# Altium integrated library Xilinx XC2000.IntLib: 47 symbols (part 2 of 2)
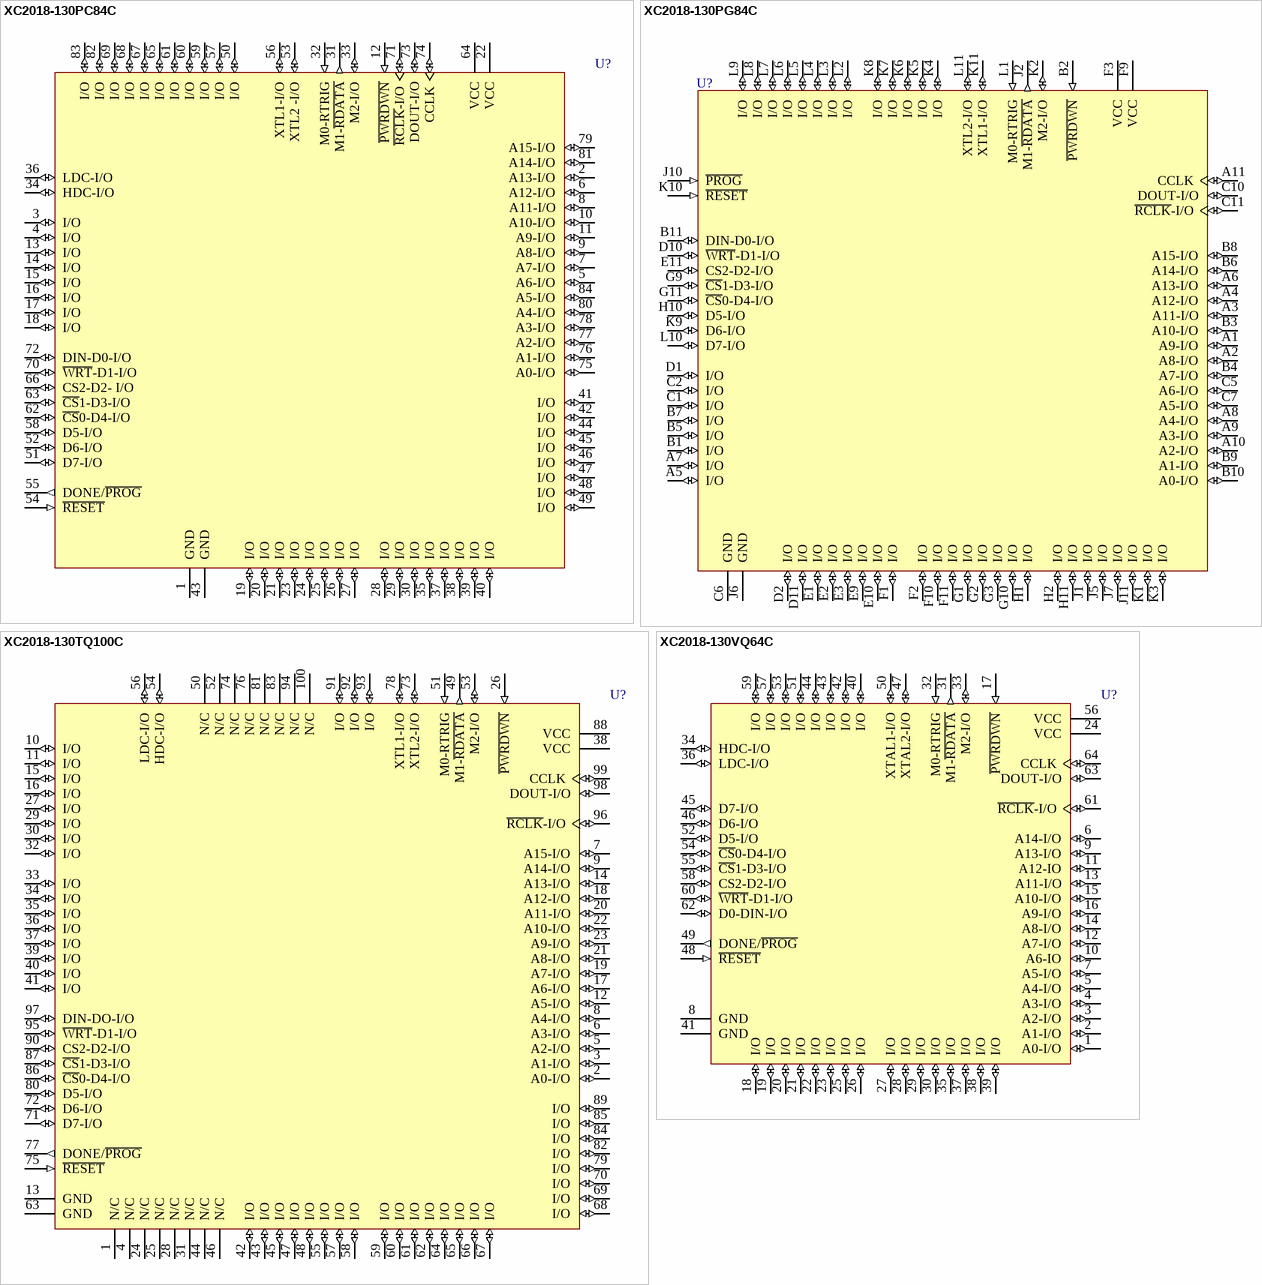
[diagram p10: symbols XC2018-130PC84C to XC2018-130VQ64C]

## XC2018-130VQ64C
designator U?
Logic Cell Array, with 54 I/O Pins, 64-Pin VQFP, Commercial Grade; PackageDocument: ver1.1, Oct-2002; Published: 8-Jun-2000; LatestRevisionDate: 17-Jul-2002; LatestRevisionNote: Re-released for DXP Platform.; DatasheetDocument: 1994; PackageReference: VQ64; Publisher: Altium Limited; Code_JEDEC: MS-026-ACD
footprint VQ64 (64-Pin Very Thin Quad Flat Pack (VQ64))
pins: 1 A0-I/O (io), 2 A1-I/O (io), 3 A2-I/O (io), 4 A3-I/O (io), 5 A4-I/O (io), 6 A14-I/O (io), 7 A5-I/O (io), 8 GND (power), 9 A13-I/O (io), 10 A6-IO (io), 11 A12-IO (io), 12 A7-I/O (io), 13 A11-I/O (io), 14 A8-I/O (io), 15 A10-I/O (io), 16 A9-I/O (io), 17 ~{PWRDWN} (in), 18 I/O (io), 19 I/O (io), 20 I/O (io), 21 I/O (io), 22 I/O (io), 23 I/O (io), 24 VCC (power), 25 I/O (io), 26 I/O (io), 27 I/O (io), 28 I/O (io), 29 I/O (io), 30 I/O (io), 31 M1-~{RDATA} (out), 32 M0-RTRIG (in), 33 M2-I/O (io), 34 HDC-I/O (io), 35 I/O (io), 36 LDC-I/O (io), 37 I/O (io), 38 I/O (io), 39 I/O (io), 40 I/O (io), 41 GND (power), 42 I/O (io), 43 I/O (io), 44 I/O (io), 45 D7-I/O (io), 46 D6-I/O (io), 47 XTAL2-I/O (io), 48 ~{RESET} (in), 49 DONE/~{PROG} (out), 50 XTAL1-I/O (io), 51 I/O (io), 52 D5-I/O (io), 53 I/O (io), 54 ~{CS}0-D4-I/O (io), 55 ~{CS}1-D3-I/O (io), 56 VCC (power), 57 I/O (io), 58 CS2-D2-I/O (io), 59 I/O (io), 60 ~{WRT}-D1-I/O (io), 61 ~{RCLK}-I/O (io), 62 D0-DIN-I/O (io), 63 DOUT-I/O (io), 64 CCLK (io)

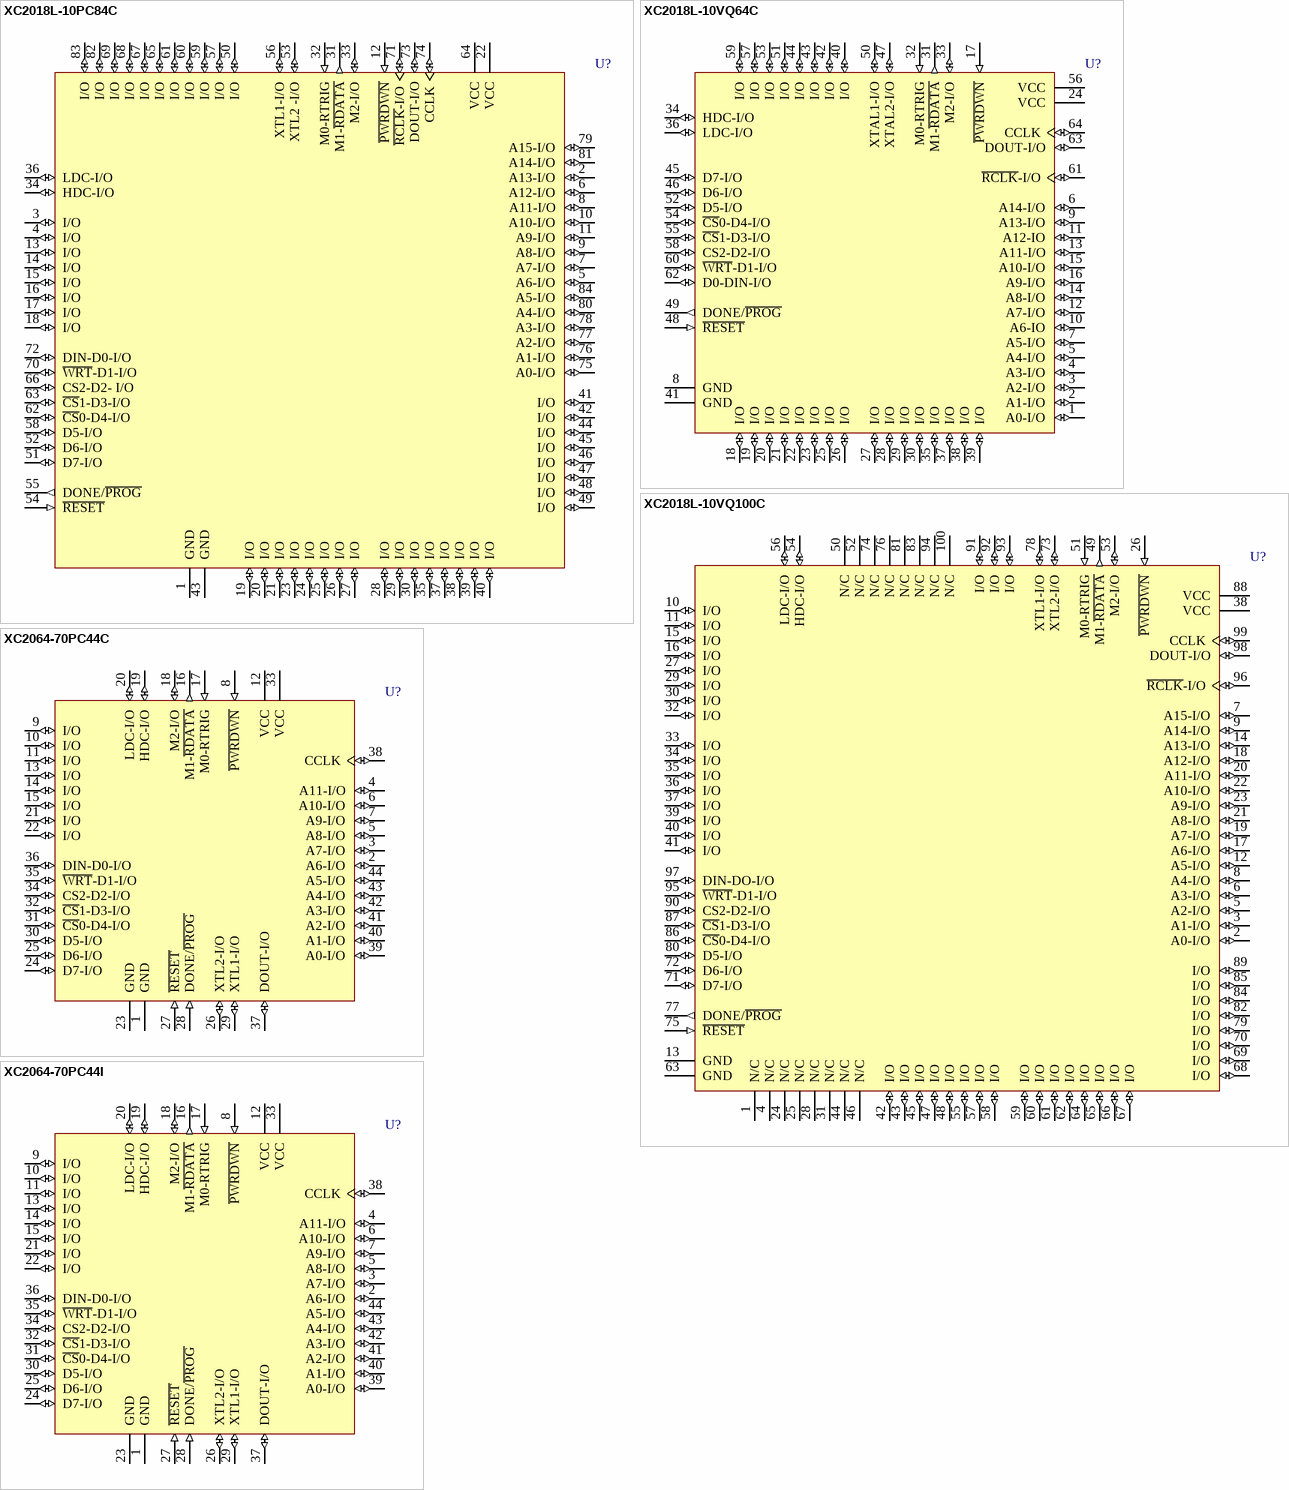
[diagram p7: symbols XC2018L-10PC84C to XC2064-70PC44I]

## XC2018L-10PC84C
designator U?
Low-Voltage Logic Cell Array Family, with 74 I/O Pins, 84-Pin PLCC, Commercial Grade; PackageDocument: ver1.0, Jun-2000; Published: 8-Jun-2000; LatestRevisionDate: 17-Sep-2003; LatestRevisionNote: PCB Footprint dimensions updated; DatasheetDocument: 1994; PackageReference: PC84; Publisher: Altium Limited; Code_JEDEC: MS-047; Code_IPC: PLCC-84
footprint PC84 (84-Pin Plastic Leaded Chip Carrier (PC84))
pins: 1 GND (power), 2 A13-I/O (io), 3 I/O (io), 4 I/O (io), 5 A6-I/O (io), 6 A12-I/O (io), 7 A7-I/O (io), 8 A11-I/O (io), 9 A8-I/O (io), 10 A10-I/O (io), 11 A9-I/O (io), 12 ~{PWRDWN} (in), 13 I/O (io), 14 I/O (io), 15 I/O (io), 16 I/O (io), 17 I/O (io), 18 I/O (io), 19 I/O (io), 20 I/O (io), 21 I/O (io), 22 VCC (power), 23 I/O (io), 24 I/O (io), 25 I/O (io), 26 I/O (io), 27 I/O (io), 28 I/O (io), 29 I/O (io), 30 I/O (io), 31 M1-~{RDATA} (out), 32 M0-RTRIG (in), 33 M2-I/O (io), 34 HDC-I/O (io), 35 I/O (io), 36 LDC-I/O (io), 37 I/O (io), 38 I/O (io), 39 I/O (io), 40 I/O (io), 41 I/O (io), 42 I/O (io), 43 GND (power), 44 I/O (io), 45 I/O (io), 46 I/O (io), 47 I/O (io), 48 I/O (io), 49 I/O (io), 50 I/O (io), 51 D7-I/O (io), 52 D6-I/O (io), 53 XTL2 -I/O (io), 54 ~{RESET} (in), 55 DONE/~{PROG} (out), 56 XTL1-I/O (io), 57 I/O (io), 58 D5-I/O (io), 59 I/O (io), 60 I/O (io), 61 I/O (io), 62 ~{CS}0-D4-I/O (io), 63 ~{CS}1-D3-I/O (io), 64 VCC (power), 65 I/O (io), 66 CS2-D2- I/O (io), 67 I/O (io), 68 I/O (io), 69 I/O (io), 70 ~{WRT}-D1-I/O (io), 71 ~{RCLK}-I/O (io), 72 DIN-D0-I/O (io), 73 DOUT-I/O (io), 74 CCLK (io), 75 A0-I/O (io), 76 A1-I/O (io), 77 A2-I/O (io), 78 A3-I/O (io), 79 A15-I/O (io), 80 A4-I/O (io), 81 A14-I/O (io), 82 I/O (io), 83 I/O (io), 84 A5-I/O (io)

## XC2018L-10VQ64C
designator U?
Low-Voltage Logic Cell Array Family, with 54 I/O Pins, 64-Pin VQFP, Commercial Grade; PackageDocument: ver1.1, Oct-2002; Published: 8-Jun-2000; LatestRevisionDate: 17-Jul-2002; LatestRevisionNote: Re-released for DXP Platform.; DatasheetDocument: 1994; PackageReference: VQ64; Publisher: Altium Limited; Code_JEDEC: MS-026-ACD
footprint VQ64 (64-Pin Very Thin Quad Flat Pack (VQ64))
pins: 1 A0-I/O (io), 2 A1-I/O (io), 3 A2-I/O (io), 4 A3-I/O (io), 5 A4-I/O (io), 6 A14-I/O (io), 7 A5-I/O (io), 8 GND (power), 9 A13-I/O (io), 10 A6-IO (io), 11 A12-IO (io), 12 A7-I/O (io), 13 A11-I/O (io), 14 A8-I/O (io), 15 A10-I/O (io), 16 A9-I/O (io), 17 ~{PWRDWN} (in), 18 I/O (io), 19 I/O (io), 20 I/O (io), 21 I/O (io), 22 I/O (io), 23 I/O (io), 24 VCC (power), 25 I/O (io), 26 I/O (io), 27 I/O (io), 28 I/O (io), 29 I/O (io), 30 I/O (io), 31 M1-~{RDATA} (out), 32 M0-RTRIG (in), 33 M2-I/O (io), 34 HDC-I/O (io), 35 I/O (io), 36 LDC-I/O (io), 37 I/O (io), 38 I/O (io), 39 I/O (io), 40 I/O (io), 41 GND (power), 42 I/O (io), 43 I/O (io), 44 I/O (io), 45 D7-I/O (io), 46 D6-I/O (io), 47 XTAL2-I/O (io), 48 ~{RESET} (in), 49 DONE/~{PROG} (out), 50 XTAL1-I/O (io), 51 I/O (io), 52 D5-I/O (io), 53 I/O (io), 54 ~{CS}0-D4-I/O (io), 55 ~{CS}1-D3-I/O (io), 56 VCC (power), 57 I/O (io), 58 CS2-D2-I/O (io), 59 I/O (io), 60 ~{WRT}-D1-I/O (io), 61 ~{RCLK}-I/O (io), 62 D0-DIN-I/O (io), 63 DOUT-I/O (io), 64 CCLK (io)

## XC2018L-10VQ100C
designator U?
Low-Voltage Logic Cell Array Family, with 74 I/O Pins, 100-Pin VQFP, Commercial Grade; PackageDocument: ver1.1, Oct-2002; Published: 8-Jun-2000; LatestRevisionDate: 17-Sep-2003; LatestRevisionNote: PCB Footprint dimensions updated; DatasheetDocument: 1994; PackageReference: VQ100; Publisher: Altium Limited; Code_JEDEC: MS-026-AED; Code_IPC: SQFP14X14-100
footprint VQ100 (100-Pin Very Thin Quad Flat Pack (VQ100))
pins: 1 N/C, 2 A0-I/O (io), 3 A1-I/O (io), 4 N/C, 5 A2-I/O (io), 6 A3-I/O (io), 7 A15-I/O (io), 8 A4-I/O (io), 9 A14-I/O (io), 10 I/O (io), 11 I/O (io), 12 A5-I/O (io), 13 GND (power), 14 A13-I/O (io), 15 I/O (io), 16 I/O (io), 17 A6-I/O (io), 18 A12-I/O (io), 19 A7-I/O (io), 20 A11-I/O (io), 21 A8-I/O (io), 22 A10-I/O (io), 23 A9-I/O (io), 24 N/C, 25 N/C, 26 ~{PWRDWN} (in), 27 I/O (io), 28 N/C, 29 I/O (io), 30 I/O (io), 31 N/C, 32 I/O (io), 33 I/O (io), 34 I/O (io), 35 I/O (io), 36 I/O (io), 37 I/O (io), 38 VCC (power), 39 I/O (io), 40 I/O (io), 41 I/O (io), 42 I/O (io), 43 I/O (io), 44 N/C, 45 I/O (io), 46 N/C, 47 I/O (io), 48 I/O (io), 49 M1-~{RDATA} (out), 50 N/C, 51 M0-RTRIG (in), 52 N/C, 53 M2-I/O (io), 54 HDC-I/O (io), 55 I/O (io), 56 LDC-I/O (io), 57 I/O (io), 58 I/O (io), 59 I/O (io), 60 I/O (io), 61 I/O (io), 62 I/O (io), 63 GND (power), 64 I/O (io), 65 I/O (io), 66 I/O (io), 67 I/O (io), 68 I/O (io), 69 I/O (io), 70 I/O (io), 71 D7-I/O (io), 72 D6-I/O (io), 73 XTL2-I/O (io), 74 N/C, 75 ~{RESET} (in), 76 N/C, 77 DONE/~{PROG} (out), 78 XTL1-I/O (io), 79 I/O (io), 80 D5-I/O (io), 81 N/C, 82 I/O (io), 83 N/C, 84 I/O (io), 85 I/O (io), 86 ~{CS}0-D4-I/O (io), 87 ~{CS}1-D3-I/O (io), 88 VCC (power), 89 I/O (io), 90 CS2-D2-I/O (io), 91 I/O (io), 92 I/O (io), 93 I/O (io), 94 N/C, 95 ~{WRT}-D1-I/O (io), 96 ~{RCLK}-I/O (io), 97 DIN-DO-I/O (io), 98 DOUT-I/O (io), 99 CCLK (io), 100 N/C

## XC2064-70PC44C
designator U?
Logic Cell Array with 600 - 1000 Gates, with 34 I/O Pins, 44-Pin PLCC, Commercial Grade; PackageDocument: ver1.0, Jun-2000; Published: 8-Jun-2000; LatestRevisionDate: 17-Sep-2003; LatestRevisionNote: PCB Footprint dimensions updated; DatasheetDocument: 1994; PackageReference: PC44; Publisher: Altium Limited; Code_JEDEC: MS-047; Code_IPC: PLCC-44
footprint PC44 (44-Pin Plastic Leaded Chip Carrier (PC44))
pins: 1 GND (power), 2 A6-I/O (io), 3 A7-I/O (io), 4 A11-I/O (io), 5 A8-I/O (io), 6 A10-I/O (io), 7 A9-I/O (io), 8 ~{PWRDWN} (in), 9 I/O (io), 10 I/O (io), 11 I/O (io), 12 VCC (power), 13 I/O (io), 14 I/O (io), 15 I/O (io), 16 M1-~{RDATA} (out), 17 M0-RTRIG (in), 18 M2-I/O (io), 19 HDC-I/O (io), 20 LDC-I/O (io), 21 I/O (io), 22 I/O (io), 23 GND (power), 24 D7-I/O (io), 25 D6-I/O (io), 26 XTL2-I/O (io), 27 ~{RESET} (in), 28 DONE/~{PROG} (in), 29 XTL1-I/O (io), 30 D5-I/O (io), 31 ~{CS}0-D4-I/O (io), 32 ~{CS}1-D3-I/O (io), 33 VCC (power), 34 CS2-D2-I/O (io), 35 ~{WRT}-D1-I/O (io), 36 DIN-D0-I/O (io), 37 DOUT-I/O (io), 38 CCLK (io), 39 A0-I/O (io), 40 A1-I/O (io), 41 A2-I/O (io), 42 A3-I/O (io), 43 A4-I/O (io), 44 A5-I/O (io)

## XC2064-70PC44I
designator U?
Logic Cell Array with 600 - 1000 Gates, with 34 I/O Pins, 44-Pin PLCC, Industrial Grade; PackageDocument: ver1.0, Jun-2000; Published: 8-Jun-2000; LatestRevisionDate: 17-Sep-2003; LatestRevisionNote: PCB Footprint dimensions updated; DatasheetDocument: 1994; PackageReference: PC44; Publisher: Altium Limited; Code_JEDEC: MS-047; Code_IPC: PLCC-44
footprint PC44 (44-Pin Plastic Leaded Chip Carrier (PC44))
pins: 1 GND (power), 2 A6-I/O (io), 3 A7-I/O (io), 4 A11-I/O (io), 5 A8-I/O (io), 6 A10-I/O (io), 7 A9-I/O (io), 8 ~{PWRDWN} (in), 9 I/O (io), 10 I/O (io), 11 I/O (io), 12 VCC (power), 13 I/O (io), 14 I/O (io), 15 I/O (io), 16 M1-~{RDATA} (out), 17 M0-RTRIG (in), 18 M2-I/O (io), 19 HDC-I/O (io), 20 LDC-I/O (io), 21 I/O (io), 22 I/O (io), 23 GND (power), 24 D7-I/O (io), 25 D6-I/O (io), 26 XTL2-I/O (io), 27 ~{RESET} (in), 28 DONE/~{PROG} (in), 29 XTL1-I/O (io), 30 D5-I/O (io), 31 ~{CS}0-D4-I/O (io), 32 ~{CS}1-D3-I/O (io), 33 VCC (power), 34 CS2-D2-I/O (io), 35 ~{WRT}-D1-I/O (io), 36 DIN-D0-I/O (io), 37 DOUT-I/O (io), 38 CCLK (io), 39 A0-I/O (io), 40 A1-I/O (io), 41 A2-I/O (io), 42 A3-I/O (io), 43 A4-I/O (io), 44 A5-I/O (io)

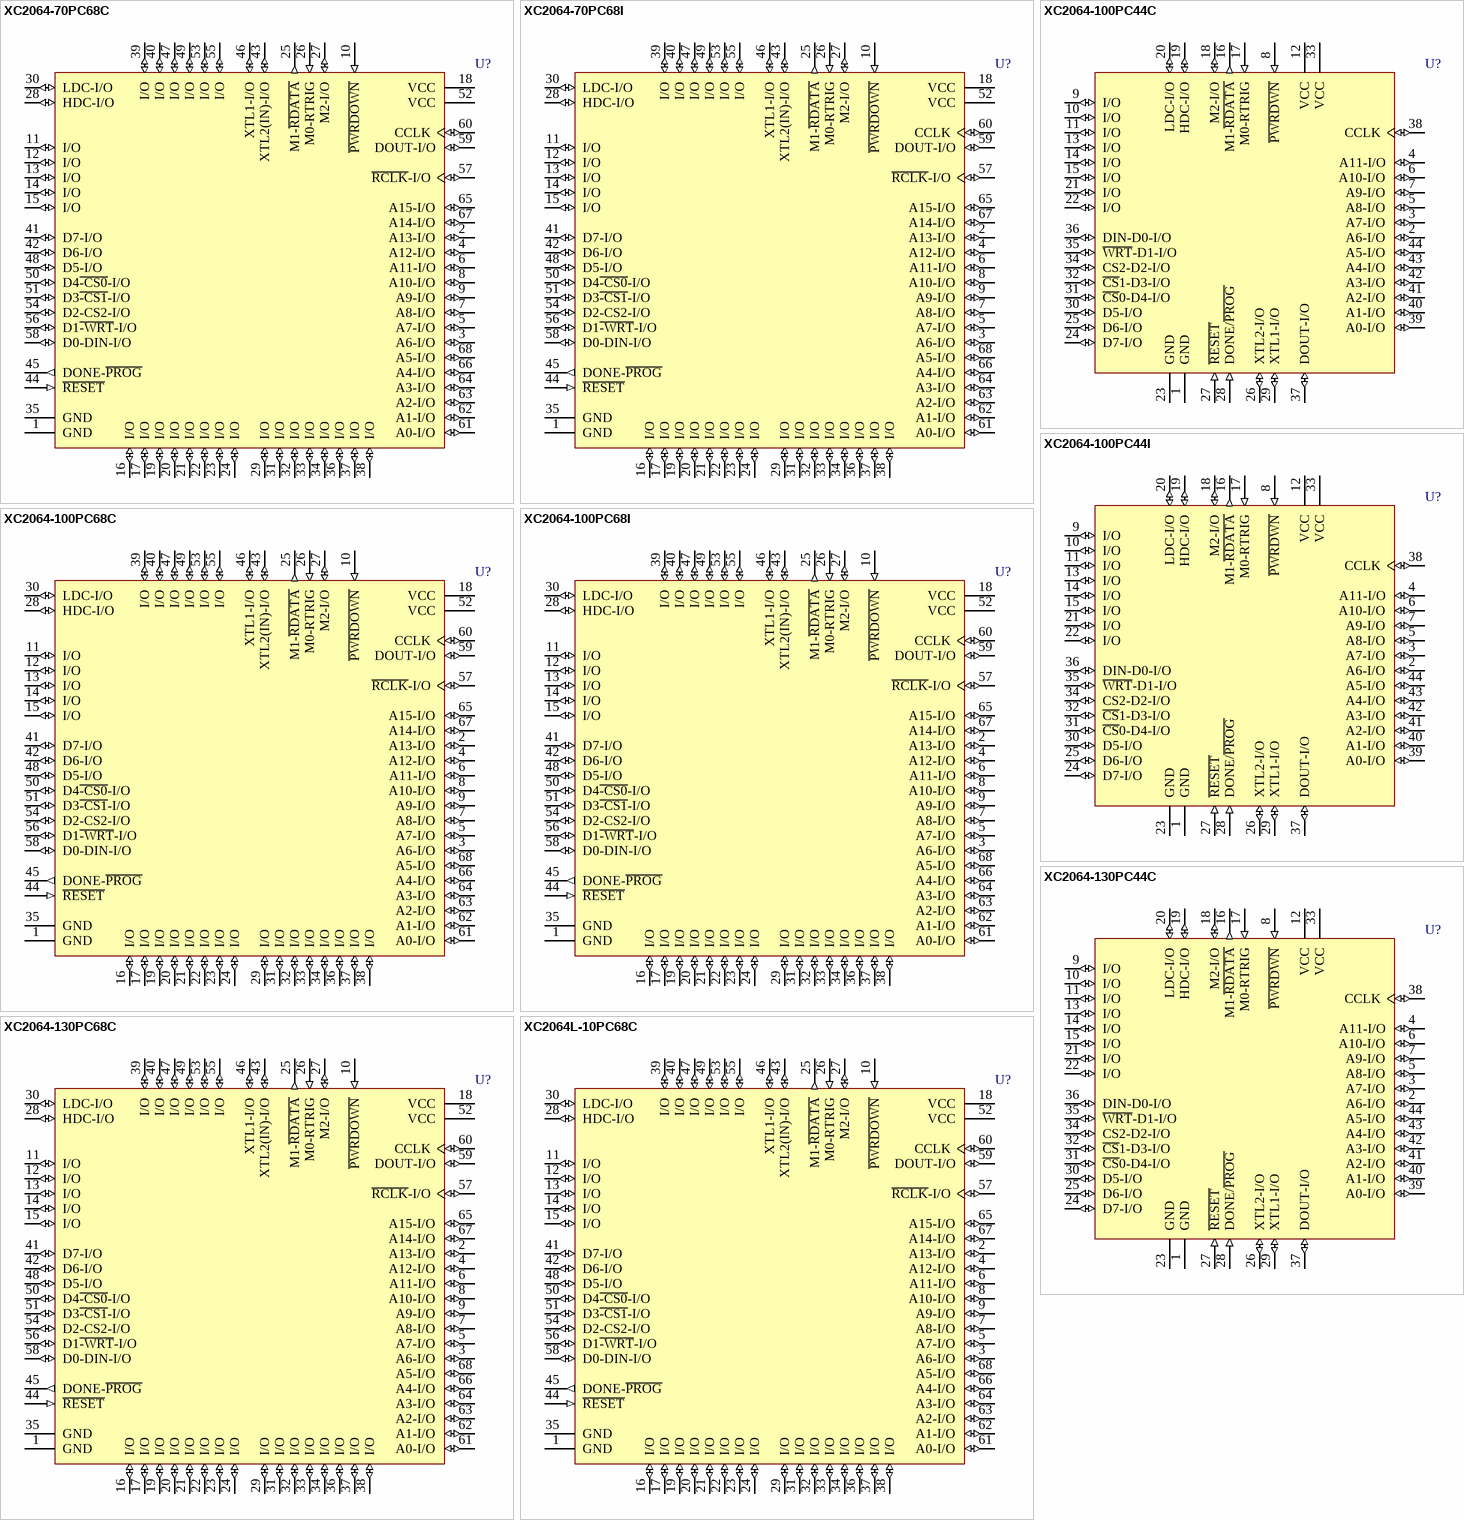
[diagram p8: symbols XC2064-70PC68C to XC2064L-10PC68C]

## XC2064-70PC68C
designator U?
Logic Cell Array with 600 - 1000 Gates, with 58 I/O Pins, 68-Pin PLCC, Commercial Grade; PackageDocument: ver1.0, Jun-2000; Published: 8-Jun-2000; LatestRevisionDate: 17-Sep-2003; LatestRevisionNote: PCB Footprint dimensions updated; DatasheetDocument: 1994; PackageReference: PC68; Publisher: Altium Limited; Code_JEDEC: MO-047; Code_IPC: PLCC-68
footprint PC68 (68-Pin Plastic Leaded Chip Carrier (PC68))
pins: 1 GND (power), 2 A13-I/O (io), 3 A6-I/O (io), 4 A12-I/O (io), 5 A7-I/O (io), 6 A11-I/O (io), 7 A8-I/O (io), 8 A10-I/O (io), 9 A9-I/O (io), 10 ~{PWRDOWN} (in), 11 I/O (io), 12 I/O (io), 13 I/O (io), 14 I/O (io), 15 I/O (io), 16 I/O (io), 17 I/O (io), 18 VCC (power), 19 I/O (io), 20 I/O (io), 21 I/O (io), 22 I/O (io), 23 I/O (io), 24 I/O (io), 25 M1-~{RDATA} (out), 26 M0-RTRIG (in), 27 M2-I/O (io), 28 HDC-I/O (io), 29 I/O (io), 30 LDC-I/O (io), 31 I/O (io), 32 I/O (io), 33 I/O (io), 34 I/O (io), 35 GND (power), 36 I/O (io), 37 I/O (io), 38 I/O (io), 39 I/O (io), 40 I/O (io), 41 D7-I/O (io), 42 D6-I/O (io), 43 XTL2(IN)-I/O (io), 44 ~{RESET} (in), 45 DONE-~{PROG} (out), 46 XTL1-I/O (io), 47 I/O (io), 48 D5-I/O (io), 49 I/O (io), 50 D4~{-CS0}-I/O (io), 51 D3~{-CS1}-I/O (io), 52 VCC (power), 53 I/O (io), 54 D2-CS2-I/O (io), 55 I/O (io), 56 D1~{-WRT}-I/O (io), 57 ~{RCLK}-I/O (io), 58 D0-DIN-I/O (io), 59 DOUT-I/O (io), 60 CCLK (io), 61 A0-I/O (io), 62 A1-I/O (io), 63 A2-I/O (io), 64 A3-I/O (io), 65 A15-I/O (io), 66 A4-I/O (io), 67 A14-I/O (io), 68 A5-I/O (io)

## XC2064-70PC68I
designator U?
Logic Cell Array with 600 - 1000 Gates, with 58 I/O Pins, 68-Pin PLCC, Industrial Grade; PackageDocument: ver1.0, Jun-2000; Published: 8-Jun-2000; LatestRevisionDate: 17-Sep-2003; LatestRevisionNote: PCB Footprint dimensions updated; DatasheetDocument: 1994; PackageReference: PC68; Publisher: Altium Limited; Code_JEDEC: MO-047; Code_IPC: PLCC-68
footprint PC68 (68-Pin Plastic Leaded Chip Carrier (PC68))
pins: 1 GND (power), 2 A13-I/O (io), 3 A6-I/O (io), 4 A12-I/O (io), 5 A7-I/O (io), 6 A11-I/O (io), 7 A8-I/O (io), 8 A10-I/O (io), 9 A9-I/O (io), 10 ~{PWRDOWN} (in), 11 I/O (io), 12 I/O (io), 13 I/O (io), 14 I/O (io), 15 I/O (io), 16 I/O (io), 17 I/O (io), 18 VCC (power), 19 I/O (io), 20 I/O (io), 21 I/O (io), 22 I/O (io), 23 I/O (io), 24 I/O (io), 25 M1-~{RDATA} (out), 26 M0-RTRIG (in), 27 M2-I/O (io), 28 HDC-I/O (io), 29 I/O (io), 30 LDC-I/O (io), 31 I/O (io), 32 I/O (io), 33 I/O (io), 34 I/O (io), 35 GND (power), 36 I/O (io), 37 I/O (io), 38 I/O (io), 39 I/O (io), 40 I/O (io), 41 D7-I/O (io), 42 D6-I/O (io), 43 XTL2(IN)-I/O (io), 44 ~{RESET} (in), 45 DONE-~{PROG} (out), 46 XTL1-I/O (io), 47 I/O (io), 48 D5-I/O (io), 49 I/O (io), 50 D4~{-CS0}-I/O (io), 51 D3~{-CS1}-I/O (io), 52 VCC (power), 53 I/O (io), 54 D2-CS2-I/O (io), 55 I/O (io), 56 D1~{-WRT}-I/O (io), 57 ~{RCLK}-I/O (io), 58 D0-DIN-I/O (io), 59 DOUT-I/O (io), 60 CCLK (io), 61 A0-I/O (io), 62 A1-I/O (io), 63 A2-I/O (io), 64 A3-I/O (io), 65 A15-I/O (io), 66 A4-I/O (io), 67 A14-I/O (io), 68 A5-I/O (io)

## XC2064-100PC44C
designator U?
Logic Cell Array with 600 - 1000 Gates, with 34 I/O Pins, 44-Pin PLCC, Commercial Grade; PackageDocument: ver1.0, Jun-2000; Published: 8-Jun-2000; LatestRevisionDate: 17-Sep-2003; LatestRevisionNote: PCB Footprint dimensions updated; DatasheetDocument: 1994; PackageReference: PC44; Publisher: Altium Limited; Code_JEDEC: MS-047; Code_IPC: PLCC-44
footprint PC44 (44-Pin Plastic Leaded Chip Carrier (PC44))
pins: 1 GND (power), 2 A6-I/O (io), 3 A7-I/O (io), 4 A11-I/O (io), 5 A8-I/O (io), 6 A10-I/O (io), 7 A9-I/O (io), 8 ~{PWRDWN} (in), 9 I/O (io), 10 I/O (io), 11 I/O (io), 12 VCC (power), 13 I/O (io), 14 I/O (io), 15 I/O (io), 16 M1-~{RDATA} (out), 17 M0-RTRIG (in), 18 M2-I/O (io), 19 HDC-I/O (io), 20 LDC-I/O (io), 21 I/O (io), 22 I/O (io), 23 GND (power), 24 D7-I/O (io), 25 D6-I/O (io), 26 XTL2-I/O (io), 27 ~{RESET} (in), 28 DONE/~{PROG} (in), 29 XTL1-I/O (io), 30 D5-I/O (io), 31 ~{CS}0-D4-I/O (io), 32 ~{CS}1-D3-I/O (io), 33 VCC (power), 34 CS2-D2-I/O (io), 35 ~{WRT}-D1-I/O (io), 36 DIN-D0-I/O (io), 37 DOUT-I/O (io), 38 CCLK (io), 39 A0-I/O (io), 40 A1-I/O (io), 41 A2-I/O (io), 42 A3-I/O (io), 43 A4-I/O (io), 44 A5-I/O (io)

## XC2064-100PC44I
designator U?
Logic Cell Array with 600 - 1000 Gates, with 34 I/O Pins, 44-Pin PLCC, Industrial Grade; PackageDocument: ver1.0, Jun-2000; Published: 8-Jun-2000; LatestRevisionDate: 17-Sep-2003; LatestRevisionNote: PCB Footprint dimensions updated; DatasheetDocument: 1994; PackageReference: PC44; Publisher: Altium Limited; Code_JEDEC: MS-047; Code_IPC: PLCC-44
footprint PC44 (44-Pin Plastic Leaded Chip Carrier (PC44))
pins: 1 GND (power), 2 A6-I/O (io), 3 A7-I/O (io), 4 A11-I/O (io), 5 A8-I/O (io), 6 A10-I/O (io), 7 A9-I/O (io), 8 ~{PWRDWN} (in), 9 I/O (io), 10 I/O (io), 11 I/O (io), 12 VCC (power), 13 I/O (io), 14 I/O (io), 15 I/O (io), 16 M1-~{RDATA} (out), 17 M0-RTRIG (in), 18 M2-I/O (io), 19 HDC-I/O (io), 20 LDC-I/O (io), 21 I/O (io), 22 I/O (io), 23 GND (power), 24 D7-I/O (io), 25 D6-I/O (io), 26 XTL2-I/O (io), 27 ~{RESET} (in), 28 DONE/~{PROG} (in), 29 XTL1-I/O (io), 30 D5-I/O (io), 31 ~{CS}0-D4-I/O (io), 32 ~{CS}1-D3-I/O (io), 33 VCC (power), 34 CS2-D2-I/O (io), 35 ~{WRT}-D1-I/O (io), 36 DIN-D0-I/O (io), 37 DOUT-I/O (io), 38 CCLK (io), 39 A0-I/O (io), 40 A1-I/O (io), 41 A2-I/O (io), 42 A3-I/O (io), 43 A4-I/O (io), 44 A5-I/O (io)

## XC2064-100PC68C
designator U?
Logic Cell Array with 600 - 1000 Gates, with 58 I/O Pins, 68-Pin PLCC, Commercial Grade; PackageDocument: ver1.0, Jun-2000; Published: 8-Jun-2000; LatestRevisionDate: 17-Sep-2003; LatestRevisionNote: PCB Footprint dimensions updated; DatasheetDocument: 1994; PackageReference: PC68; Publisher: Altium Limited; Code_JEDEC: MO-047; Code_IPC: PLCC-68
footprint PC68 (68-Pin Plastic Leaded Chip Carrier (PC68))
pins: 1 GND (power), 2 A13-I/O (io), 3 A6-I/O (io), 4 A12-I/O (io), 5 A7-I/O (io), 6 A11-I/O (io), 7 A8-I/O (io), 8 A10-I/O (io), 9 A9-I/O (io), 10 ~{PWRDOWN} (in), 11 I/O (io), 12 I/O (io), 13 I/O (io), 14 I/O (io), 15 I/O (io), 16 I/O (io), 17 I/O (io), 18 VCC (power), 19 I/O (io), 20 I/O (io), 21 I/O (io), 22 I/O (io), 23 I/O (io), 24 I/O (io), 25 M1-~{RDATA} (out), 26 M0-RTRIG (in), 27 M2-I/O (io), 28 HDC-I/O (io), 29 I/O (io), 30 LDC-I/O (io), 31 I/O (io), 32 I/O (io), 33 I/O (io), 34 I/O (io), 35 GND (power), 36 I/O (io), 37 I/O (io), 38 I/O (io), 39 I/O (io), 40 I/O (io), 41 D7-I/O (io), 42 D6-I/O (io), 43 XTL2(IN)-I/O (io), 44 ~{RESET} (in), 45 DONE-~{PROG} (out), 46 XTL1-I/O (io), 47 I/O (io), 48 D5-I/O (io), 49 I/O (io), 50 D4~{-CS0}-I/O (io), 51 D3~{-CS1}-I/O (io), 52 VCC (power), 53 I/O (io), 54 D2-CS2-I/O (io), 55 I/O (io), 56 D1~{-WRT}-I/O (io), 57 ~{RCLK}-I/O (io), 58 D0-DIN-I/O (io), 59 DOUT-I/O (io), 60 CCLK (io), 61 A0-I/O (io), 62 A1-I/O (io), 63 A2-I/O (io), 64 A3-I/O (io), 65 A15-I/O (io), 66 A4-I/O (io), 67 A14-I/O (io), 68 A5-I/O (io)

## XC2064-100PC68I
designator U?
Logic Cell Array with 600 - 1000 Gates, with 58 I/O Pins, 68-Pin PLCC, Industrial Grade; PackageDocument: ver1.0, Jun-2000; Published: 8-Jun-2000; LatestRevisionDate: 17-Sep-2003; LatestRevisionNote: PCB Footprint dimensions updated; DatasheetDocument: 1994; PackageReference: PC68; Publisher: Altium Limited; Code_JEDEC: MO-047; Code_IPC: PLCC-68
footprint PC68 (68-Pin Plastic Leaded Chip Carrier (PC68))
pins: 1 GND (power), 2 A13-I/O (io), 3 A6-I/O (io), 4 A12-I/O (io), 5 A7-I/O (io), 6 A11-I/O (io), 7 A8-I/O (io), 8 A10-I/O (io), 9 A9-I/O (io), 10 ~{PWRDOWN} (in), 11 I/O (io), 12 I/O (io), 13 I/O (io), 14 I/O (io), 15 I/O (io), 16 I/O (io), 17 I/O (io), 18 VCC (power), 19 I/O (io), 20 I/O (io), 21 I/O (io), 22 I/O (io), 23 I/O (io), 24 I/O (io), 25 M1-~{RDATA} (out), 26 M0-RTRIG (in), 27 M2-I/O (io), 28 HDC-I/O (io), 29 I/O (io), 30 LDC-I/O (io), 31 I/O (io), 32 I/O (io), 33 I/O (io), 34 I/O (io), 35 GND (power), 36 I/O (io), 37 I/O (io), 38 I/O (io), 39 I/O (io), 40 I/O (io), 41 D7-I/O (io), 42 D6-I/O (io), 43 XTL2(IN)-I/O (io), 44 ~{RESET} (in), 45 DONE-~{PROG} (out), 46 XTL1-I/O (io), 47 I/O (io), 48 D5-I/O (io), 49 I/O (io), 50 D4~{-CS0}-I/O (io), 51 D3~{-CS1}-I/O (io), 52 VCC (power), 53 I/O (io), 54 D2-CS2-I/O (io), 55 I/O (io), 56 D1~{-WRT}-I/O (io), 57 ~{RCLK}-I/O (io), 58 D0-DIN-I/O (io), 59 DOUT-I/O (io), 60 CCLK (io), 61 A0-I/O (io), 62 A1-I/O (io), 63 A2-I/O (io), 64 A3-I/O (io), 65 A15-I/O (io), 66 A4-I/O (io), 67 A14-I/O (io), 68 A5-I/O (io)

## XC2064-130PC44C
designator U?
Logic Cell Array with 600 - 1000 Gates, with 34 I/O Pins, 44-Pin PLCC, Commercial Grade; PackageDocument: ver1.0, Jun-2000; Published: 8-Jun-2000; LatestRevisionDate: 17-Sep-2003; LatestRevisionNote: PCB Footprint dimensions updated; DatasheetDocument: 1994; PackageReference: PC44; Publisher: Altium Limited; Code_JEDEC: MS-047; Code_IPC: PLCC-44
footprint PC44 (44-Pin Plastic Leaded Chip Carrier (PC44))
pins: 1 GND (power), 2 A6-I/O (io), 3 A7-I/O (io), 4 A11-I/O (io), 5 A8-I/O (io), 6 A10-I/O (io), 7 A9-I/O (io), 8 ~{PWRDWN} (in), 9 I/O (io), 10 I/O (io), 11 I/O (io), 12 VCC (power), 13 I/O (io), 14 I/O (io), 15 I/O (io), 16 M1-~{RDATA} (out), 17 M0-RTRIG (in), 18 M2-I/O (io), 19 HDC-I/O (io), 20 LDC-I/O (io), 21 I/O (io), 22 I/O (io), 23 GND (power), 24 D7-I/O (io), 25 D6-I/O (io), 26 XTL2-I/O (io), 27 ~{RESET} (in), 28 DONE/~{PROG} (in), 29 XTL1-I/O (io), 30 D5-I/O (io), 31 ~{CS}0-D4-I/O (io), 32 ~{CS}1-D3-I/O (io), 33 VCC (power), 34 CS2-D2-I/O (io), 35 ~{WRT}-D1-I/O (io), 36 DIN-D0-I/O (io), 37 DOUT-I/O (io), 38 CCLK (io), 39 A0-I/O (io), 40 A1-I/O (io), 41 A2-I/O (io), 42 A3-I/O (io), 43 A4-I/O (io), 44 A5-I/O (io)

## XC2064-130PC68C
designator U?
Logic Cell Array with 600 - 1000 Gates, with 58 I/O Pins, 68-Pin PLCC, Commercial Grade; PackageDocument: ver1.0, Jun-2000; Published: 8-Jun-2000; LatestRevisionDate: 17-Sep-2003; LatestRevisionNote: PCB Footprint dimensions updated; DatasheetDocument: 1994; PackageReference: PC68; Publisher: Altium Limited; Code_JEDEC: MO-047; Code_IPC: PLCC-68
footprint PC68 (68-Pin Plastic Leaded Chip Carrier (PC68))
pins: 1 GND (power), 2 A13-I/O (io), 3 A6-I/O (io), 4 A12-I/O (io), 5 A7-I/O (io), 6 A11-I/O (io), 7 A8-I/O (io), 8 A10-I/O (io), 9 A9-I/O (io), 10 ~{PWRDOWN} (in), 11 I/O (io), 12 I/O (io), 13 I/O (io), 14 I/O (io), 15 I/O (io), 16 I/O (io), 17 I/O (io), 18 VCC (power), 19 I/O (io), 20 I/O (io), 21 I/O (io), 22 I/O (io), 23 I/O (io), 24 I/O (io), 25 M1-~{RDATA} (out), 26 M0-RTRIG (in), 27 M2-I/O (io), 28 HDC-I/O (io), 29 I/O (io), 30 LDC-I/O (io), 31 I/O (io), 32 I/O (io), 33 I/O (io), 34 I/O (io), 35 GND (power), 36 I/O (io), 37 I/O (io), 38 I/O (io), 39 I/O (io), 40 I/O (io), 41 D7-I/O (io), 42 D6-I/O (io), 43 XTL2(IN)-I/O (io), 44 ~{RESET} (in), 45 DONE-~{PROG} (out), 46 XTL1-I/O (io), 47 I/O (io), 48 D5-I/O (io), 49 I/O (io), 50 D4~{-CS0}-I/O (io), 51 D3~{-CS1}-I/O (io), 52 VCC (power), 53 I/O (io), 54 D2-CS2-I/O (io), 55 I/O (io), 56 D1~{-WRT}-I/O (io), 57 ~{RCLK}-I/O (io), 58 D0-DIN-I/O (io), 59 DOUT-I/O (io), 60 CCLK (io), 61 A0-I/O (io), 62 A1-I/O (io), 63 A2-I/O (io), 64 A3-I/O (io), 65 A15-I/O (io), 66 A4-I/O (io), 67 A14-I/O (io), 68 A5-I/O (io)

## XC2064L-10PC68C
designator U?
Logic Cell Array with 600 - 1000 Gates, with 58 I/O Pins, 68-Pin PLCC, Commercial Grade; PackageDocument: ver1.0, Jun-2000; Published: 8-Jun-2000; LatestRevisionDate: 17-Sep-2003; LatestRevisionNote: PCB Footprint dimensions updated; DatasheetDocument: 1994; PackageReference: PC68; Publisher: Altium Limited; Code_JEDEC: MO-047; Code_IPC: PLCC-68
footprint PC68 (68-Pin Plastic Leaded Chip Carrier (PC68))
pins: 1 GND (power), 2 A13-I/O (io), 3 A6-I/O (io), 4 A12-I/O (io), 5 A7-I/O (io), 6 A11-I/O (io), 7 A8-I/O (io), 8 A10-I/O (io), 9 A9-I/O (io), 10 ~{PWRDOWN} (in), 11 I/O (io), 12 I/O (io), 13 I/O (io), 14 I/O (io), 15 I/O (io), 16 I/O (io), 17 I/O (io), 18 VCC (power), 19 I/O (io), 20 I/O (io), 21 I/O (io), 22 I/O (io), 23 I/O (io), 24 I/O (io), 25 M1-~{RDATA} (out), 26 M0-RTRIG (in), 27 M2-I/O (io), 28 HDC-I/O (io), 29 I/O (io), 30 LDC-I/O (io), 31 I/O (io), 32 I/O (io), 33 I/O (io), 34 I/O (io), 35 GND (power), 36 I/O (io), 37 I/O (io), 38 I/O (io), 39 I/O (io), 40 I/O (io), 41 D7-I/O (io), 42 D6-I/O (io), 43 XTL2(IN)-I/O (io), 44 ~{RESET} (in), 45 DONE-~{PROG} (out), 46 XTL1-I/O (io), 47 I/O (io), 48 D5-I/O (io), 49 I/O (io), 50 D4~{-CS0}-I/O (io), 51 D3~{-CS1}-I/O (io), 52 VCC (power), 53 I/O (io), 54 D2-CS2-I/O (io), 55 I/O (io), 56 D1~{-WRT}-I/O (io), 57 ~{RCLK}-I/O (io), 58 D0-DIN-I/O (io), 59 DOUT-I/O (io), 60 CCLK (io), 61 A0-I/O (io), 62 A1-I/O (io), 63 A2-I/O (io), 64 A3-I/O (io), 65 A15-I/O (io), 66 A4-I/O (io), 67 A14-I/O (io), 68 A5-I/O (io)

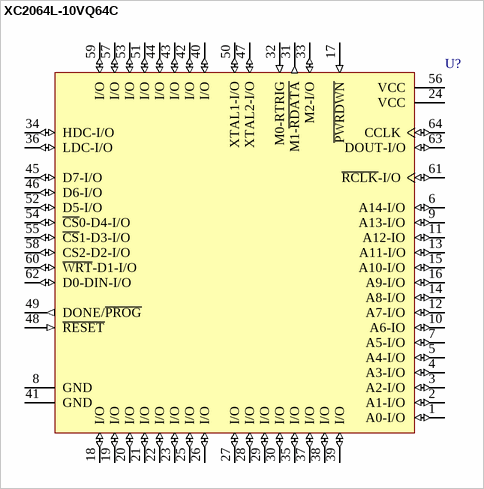
[diagram p9: symbol XC2064L-10VQ64C]

## XC2064L-10VQ64C
designator U?
Logic Cell Array with 600 - 1000 Gates, with 54 I/O Pins, 64-Pin VQFP, Commercial Grade; PackageDocument: ver1.1, Oct-2002; Published: 8-Jun-2000; LatestRevisionDate: 17-Jul-2002; LatestRevisionNote: Re-released for DXP Platform.; DatasheetDocument: 1994; PackageReference: VQ64; Publisher: Altium Limited; Code_JEDEC: MS-026-ACD
footprint VQ64 (64-Pin Very Thin Quad Flat Pack (VQ64))
pins: 1 A0-I/O (io), 2 A1-I/O (io), 3 A2-I/O (io), 4 A3-I/O (io), 5 A4-I/O (io), 6 A14-I/O (io), 7 A5-I/O (io), 8 GND (power), 9 A13-I/O (io), 10 A6-IO (io), 11 A12-IO (io), 12 A7-I/O (io), 13 A11-I/O (io), 14 A8-I/O (io), 15 A10-I/O (io), 16 A9-I/O (io), 17 ~{PWRDWN} (in), 18 I/O (io), 19 I/O (io), 20 I/O (io), 21 I/O (io), 22 I/O (io), 23 I/O (io), 24 VCC (power), 25 I/O (io), 26 I/O (io), 27 I/O (io), 28 I/O (io), 29 I/O (io), 30 I/O (io), 31 M1-~{RDATA} (out), 32 M0-RTRIG (in), 33 M2-I/O (io), 34 HDC-I/O (io), 35 I/O (io), 36 LDC-I/O (io), 37 I/O (io), 38 I/O (io), 39 I/O (io), 40 I/O (io), 41 GND (power), 42 I/O (io), 43 I/O (io), 44 I/O (io), 45 D7-I/O (io), 46 D6-I/O (io), 47 XTAL2-I/O (io), 48 ~{RESET} (in), 49 DONE/~{PROG} (out), 50 XTAL1-I/O (io), 51 I/O (io), 52 D5-I/O (io), 53 I/O (io), 54 ~{CS}0-D4-I/O (io), 55 ~{CS}1-D3-I/O (io), 56 VCC (power), 57 I/O (io), 58 CS2-D2-I/O (io), 59 I/O (io), 60 ~{WRT}-D1-I/O (io), 61 ~{RCLK}-I/O (io), 62 D0-DIN-I/O (io), 63 DOUT-I/O (io), 64 CCLK (io)